# Altium integrated library Atmel Microcontroller 8-Bit tinyAVR.IntLib: 200 symbols (part 6 of 7)
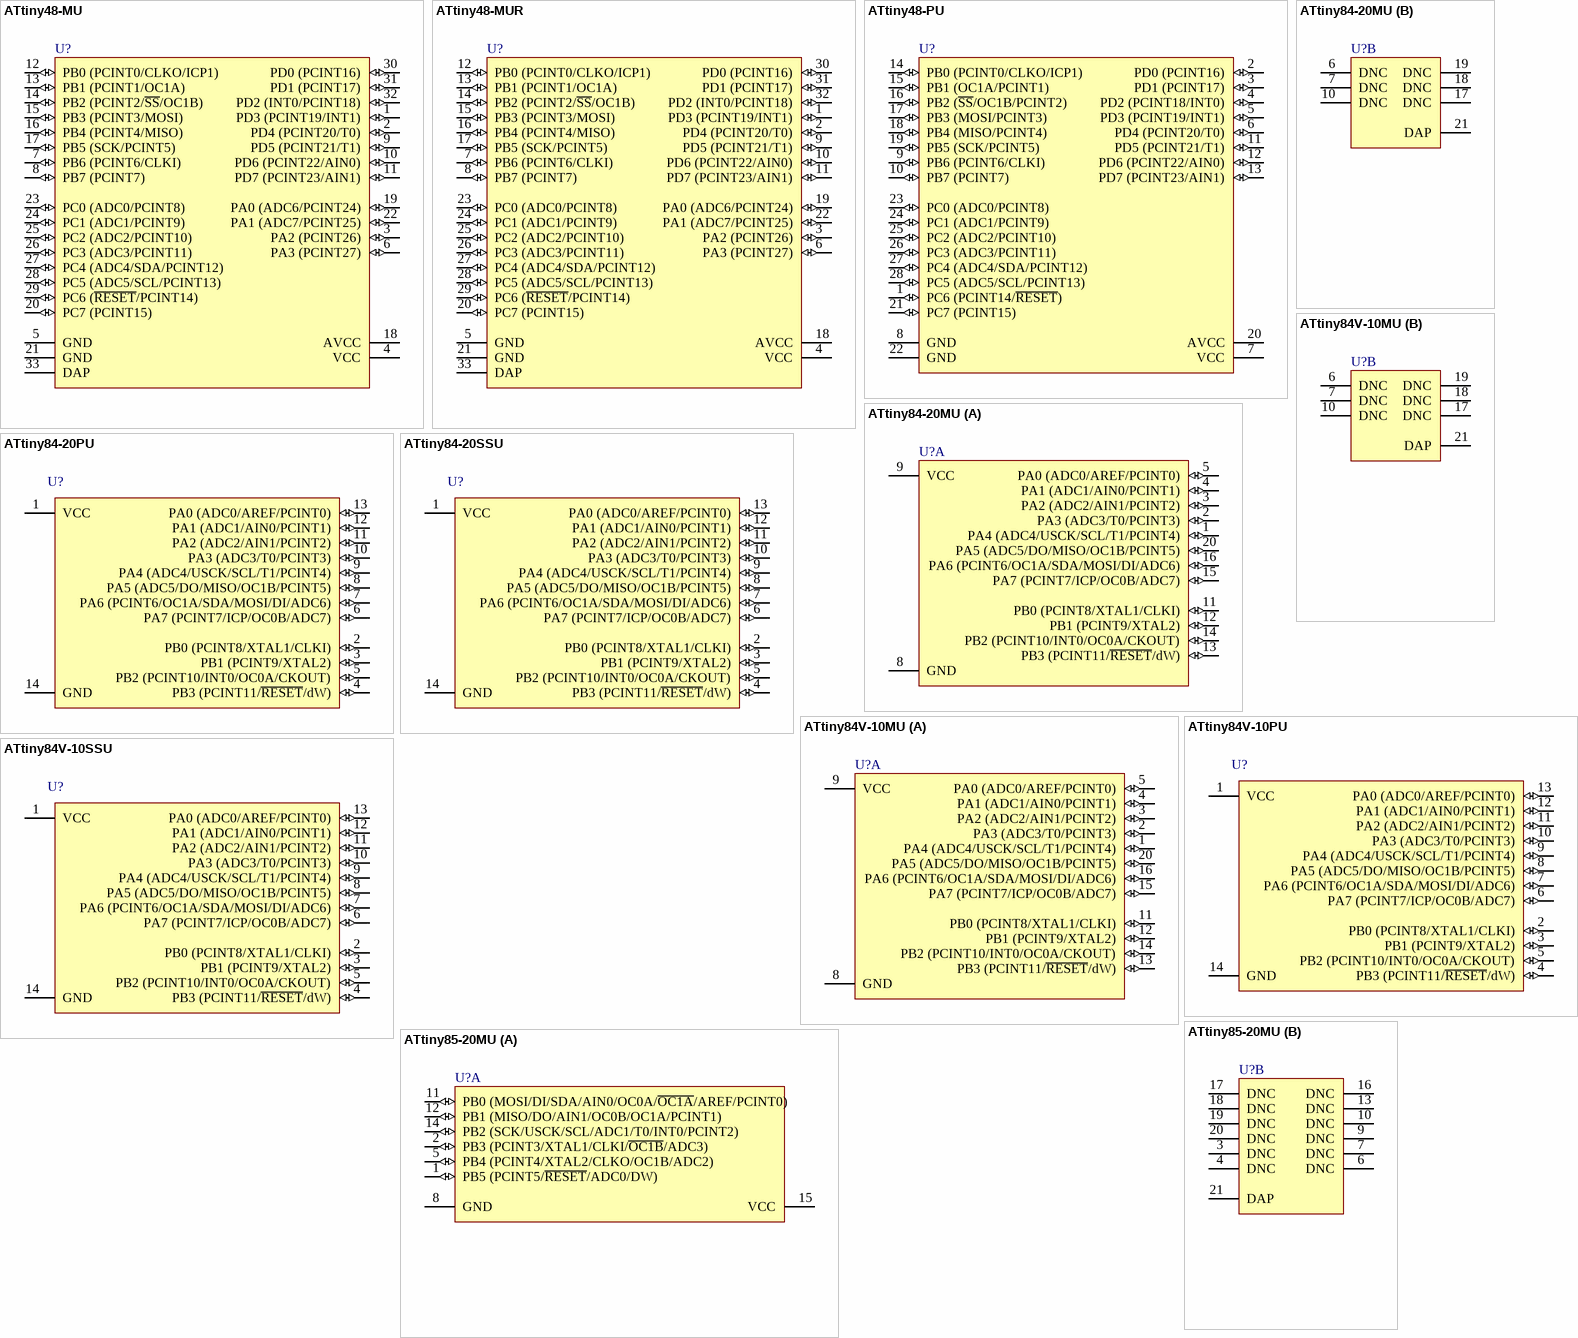
[diagram p18: symbols ATtiny48-MU to ATtiny85-20MU]

## ATtiny85-20MU
designator U?
Low Power tinyAVR® 8-Bit Microcontroller, 8K Flash Memory, 20MHz, Industrial Temperature, 20-pad MLF, Pb-Free; Published: 20-Nov-2009; DatasheetVersion: DOC2586I, May-2008; PackageVersion: revA, Oct-2004; PackageReference: 20M1; Publisher: Altium Limited; PackageDescription: 20-pad, 4 x 4 x 0.8 mm Body, Lead Pitch 0.50 mm, 2.6 mm Exposed Pad, Micro Lead Frame Package (MLF); Supplier 1: Digi-Key; Supplier Part Number 1: ATTINY85-20MU-ND; Supplier 2: Mouser; Supplier Part Number 2: 556-ATTINY85-20MU; Code_JEDEC: MO-220WGGD-5; ComponentLink1Description: Manufacturer Link; ComponentLink1URL: http://www.atmel.com/products/AVR/tinyavr.asp?; ComponentLink2Description: Datasheet; ComponentLink2URL: http://www.atmel.com/dyn/resources/prod_documents/doc2586.pdf; ComponentLink3Description: Atmel.com Home; ComponentLink3URL: http://www.atmel.com
footprint 20M1_N (QFN, 20-Leads, Body 4x4mm, Pitch 0.5mm, IPC Medium Density)
footprint 20M1_L (QFN, 20-Leads, Body 4x4mm, Pitch 0.5mm, IPC High Density)
footprint 20M1_M (QFN, 20-Leads, Body 4x4mm, Pitch 0.5mm, IPC Low Density)
part A pins: 1 PB5 (PCINT5/~{RESET}/ADC0/DW) (io), 2 PB3 (PCINT3/XTAL1/CLKI/~{OC1B}/ADC3) (io), 5 PB4 (PCINT4/XTAL2/CLKO/OC1B/ADC2) (io), 8 GND (power), 11 PB0 (MOSI/DI/SDA/AIN0/OC0A/~{OC1A}/AREF/PCINT0) (io), 12 PB1 (MISO/DO/AIN1/OC0B/OC1A/PCINT1) (io), 14 PB2 (SCK/USCK/SCL/ADC1/T0/INT0/PCINT2) (io), 15 VCC (power)
part B pins: 3 DNC, 4 DNC, 6 DNC, 7 DNC, 9 DNC, 10 DNC, 13 DNC, 16 DNC, 17 DNC, 18 DNC, 19 DNC, 20 DNC, 21 DAP

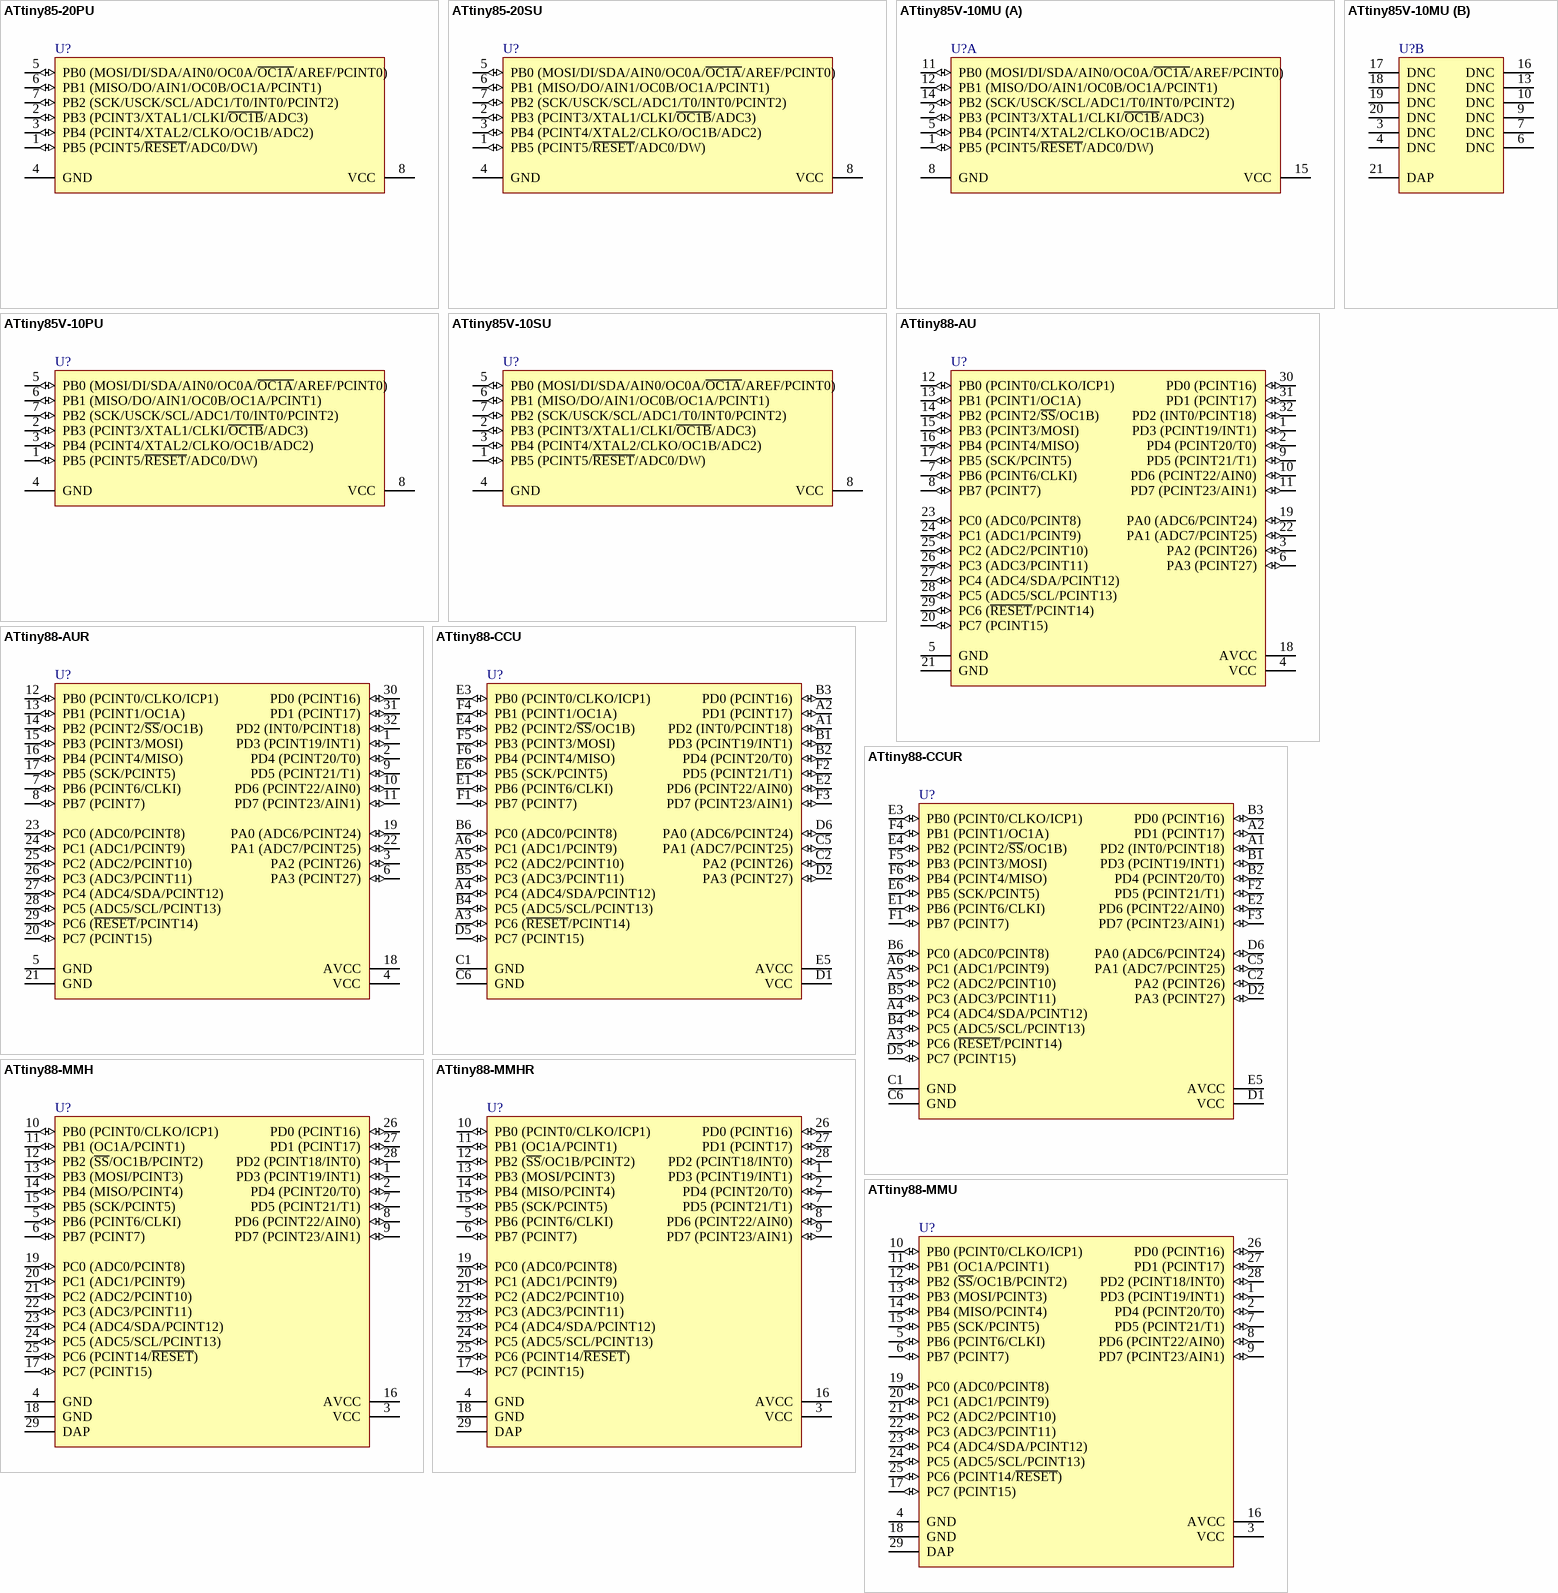
[diagram p10: symbols ATtiny85-20PU to ATtiny88-MMU]

## ATtiny85-20PU
designator U?
Low Power tinyAVR® 8-Bit Microcontroller, 8K Flash Memory, 20MHz, Industrial Temperature, 8-Lead PDIP, Pb-Free; Published: 20-Nov-2009; DatasheetVersion: DOC2586I, May-2008; PackageVersion: revB, Jan-2002; PackageReference: 8P3; Publisher: Altium Limited; PackageDescription: 8-Lead, 0.300" Wide Body, Plastic Dual In-Line Package (PDIP); Supplier 1: Digi-Key; Supplier Part Number 1: ATTINY85-20PU-ND; Supplier 2: Farnell; Supplier Part Number 2: 1455162; Supplier 3: Mouser; Supplier Part Number 3: 556-ATTINY85-20PU; Code_JEDEC: MS-001-BA; ComponentLink1Description: Manufacturer Link; ComponentLink1URL: http://www.atmel.com/products/AVR/tinyavr.asp?; ComponentLink2Description: Datasheet; ComponentLink2URL: http://www.atmel.com/dyn/resources/prod_documents/doc2586.pdf; ComponentLink3Description: Atmel.com Home; ComponentLink3URL: http://www.atmel.com
footprint 8P3 (DIP, 8-Leads, Row Spacing 7.62mm, Pitch 2.54mm, Body 9.59x6.61mm)
pins: 1 PB5 (PCINT5/~{RESET}/ADC0/DW) (io), 2 PB3 (PCINT3/XTAL1/CLKI/~{OC1B}/ADC3) (io), 3 PB4 (PCINT4/XTAL2/CLKO/OC1B/ADC2) (io), 4 GND (power), 5 PB0 (MOSI/DI/SDA/AIN0/OC0A/~{OC1A}/AREF/PCINT0) (io), 6 PB1 (MISO/DO/AIN1/OC0B/OC1A/PCINT1) (io), 7 PB2 (SCK/USCK/SCL/ADC1/T0/INT0/PCINT2) (io), 8 VCC (power)

## ATtiny85-20SU
designator U?
Low Power tinyAVR® 8-Bit Microcontroller, 8K Flash Memory, 20MHz, Industrial Temperature, 8-Lead SOIC, Pb-Free; Published: 20-Nov-2009; DatasheetVersion: DOC2586I, May-2008; PackageVersion: revF, Apr-2008; PackageReference: 8S2; Publisher: Altium Limited; PackageDescription: 8-Lead, 0.208" Body, Plastic Small Outline Package (EIAJ); Supplier 1: Digi-Key; Supplier Part Number 1: ATTINY85-20SU-ND; Supplier 2: Farnell; Supplier Part Number 2: 1455164; Supplier 3: Mouser; Supplier Part Number 3: 556-ATTINY85-20SU; ComponentLink1Description: Manufacturer Link; ComponentLink1URL: http://www.atmel.com/products/AVR/tinyavr.asp?; ComponentLink2Description: Datasheet; ComponentLink2URL: http://www.atmel.com/dyn/resources/prod_documents/doc2586.pdf; ComponentLink3Description: Atmel.com Home; ComponentLink3URL: http://www.atmel.com
footprint 8S2_N (SOP, 8-Leads, Body 5.3x5.3mm, Pitch 1.27mm, IPC Medium Density)
footprint 8S2_L (SOP, 8-Leads, Body 5.3x5.3mm, Pitch 1.27mm, IPC High Density)
footprint 8S2_M (SOP, 8-Leads, Body 5.3x5.3mm, Pitch 1.27mm, IPC Low Density)
pins: 1 PB5 (PCINT5/~{RESET}/ADC0/DW) (io), 2 PB3 (PCINT3/XTAL1/CLKI/~{OC1B}/ADC3) (io), 3 PB4 (PCINT4/XTAL2/CLKO/OC1B/ADC2) (io), 4 GND (power), 5 PB0 (MOSI/DI/SDA/AIN0/OC0A/~{OC1A}/AREF/PCINT0) (io), 6 PB1 (MISO/DO/AIN1/OC0B/OC1A/PCINT1) (io), 7 PB2 (SCK/USCK/SCL/ADC1/T0/INT0/PCINT2) (io), 8 VCC (power)

## ATtiny85V-10MU
designator U?
Low Power tinyAVR® 8-Bit Microcontroller, 8K Flash Memory, 10MHz, Industrial Temperature, 20-pad MLF, Pb-Free; Published: 20-Nov-2009; DatasheetVersion: DOC2586I, May-2008; PackageVersion: revA, Oct-2004; PackageReference: 20M1; Publisher: Altium Limited; PackageDescription: 20-pad, 4 x 4 x 0.8 mm Body, Lead Pitch 0.50 mm, 2.6 mm Exposed Pad, Micro Lead Frame Package (MLF); Supplier 1: Digi-Key; Supplier Part Number 1: ATTINY85V-10MU-ND; Supplier 2: Mouser; Supplier Part Number 2: 556-ATTINY85V10MU; Code_JEDEC: MO-220WGGD-5; ComponentLink1Description: Manufacturer Link; ComponentLink1URL: http://www.atmel.com/products/AVR/tinyavr.asp?; ComponentLink2Description: Datasheet; ComponentLink2URL: http://www.atmel.com/dyn/resources/prod_documents/doc2586.pdf; ComponentLink3Description: Atmel.com Home; ComponentLink3URL: http://www.atmel.com
footprint 20M1_N (QFN, 20-Leads, Body 4x4mm, Pitch 0.5mm, IPC Medium Density)
footprint 20M1_L (QFN, 20-Leads, Body 4x4mm, Pitch 0.5mm, IPC High Density)
footprint 20M1_M (QFN, 20-Leads, Body 4x4mm, Pitch 0.5mm, IPC Low Density)
part A pins: 1 PB5 (PCINT5/~{RESET}/ADC0/DW) (io), 2 PB3 (PCINT3/XTAL1/CLKI/~{OC1B}/ADC3) (io), 5 PB4 (PCINT4/XTAL2/CLKO/OC1B/ADC2) (io), 8 GND (power), 11 PB0 (MOSI/DI/SDA/AIN0/OC0A/~{OC1A}/AREF/PCINT0) (io), 12 PB1 (MISO/DO/AIN1/OC0B/OC1A/PCINT1) (io), 14 PB2 (SCK/USCK/SCL/ADC1/T0/INT0/PCINT2) (io), 15 VCC (power)
part B pins: 3 DNC, 4 DNC, 6 DNC, 7 DNC, 9 DNC, 10 DNC, 13 DNC, 16 DNC, 17 DNC, 18 DNC, 19 DNC, 20 DNC, 21 DAP

## ATtiny85V-10PU
designator U?
Low Power tinyAVR® 8-Bit Microcontroller, 8K Flash Memory, 10MHz, Industrial Temperature, 8-Lead PDIP, Pb-Free; Published: 20-Nov-2009; DatasheetVersion: DOC2586I, May-2008; PackageVersion: revB, Jan-2002; PackageReference: 8P3; Publisher: Altium Limited; PackageDescription: 8-Lead, 0.300" Wide Body, Plastic Dual In-Line Package (PDIP); Supplier 1: Digi-Key; Supplier Part Number 1: ATTINY85V-10PU-ND; Supplier 2: Farnell; Supplier Part Number 2: 1455165; Supplier 3: Mouser; Supplier Part Number 3: 556-ATTINY85V10PU; Code_JEDEC: MS-001-BA; ComponentLink1Description: Manufacturer Link; ComponentLink1URL: http://www.atmel.com/products/AVR/tinyavr.asp?; ComponentLink2Description: Datasheet; ComponentLink2URL: http://www.atmel.com/dyn/resources/prod_documents/doc2586.pdf; ComponentLink3Description: Atmel.com Home; ComponentLink3URL: http://www.atmel.com
footprint 8P3 (DIP, 8-Leads, Row Spacing 7.62mm, Pitch 2.54mm, Body 9.59x6.61mm)
pins: 1 PB5 (PCINT5/~{RESET}/ADC0/DW) (io), 2 PB3 (PCINT3/XTAL1/CLKI/~{OC1B}/ADC3) (io), 3 PB4 (PCINT4/XTAL2/CLKO/OC1B/ADC2) (io), 4 GND (power), 5 PB0 (MOSI/DI/SDA/AIN0/OC0A/~{OC1A}/AREF/PCINT0) (io), 6 PB1 (MISO/DO/AIN1/OC0B/OC1A/PCINT1) (io), 7 PB2 (SCK/USCK/SCL/ADC1/T0/INT0/PCINT2) (io), 8 VCC (power)

## ATtiny85V-10SU
designator U?
Low Power tinyAVR® 8-Bit Microcontroller, 8K Flash Memory, 10MHz, Industrial Temperature, 8-Lead SOIC, Pb-Free; Published: 20-Nov-2009; DatasheetVersion: DOC2586I, May-2008; PackageVersion: revF, Apr-2008; PackageReference: 8S2; Publisher: Altium Limited; PackageDescription: 8-Lead, 0.208" Body, Plastic Small Outline Package (EIAJ); Supplier 1: Digi-Key; Supplier Part Number 1: ATTINY85V-10SU-ND; Supplier 2: Farnell; Supplier Part Number 2: 1455166; Supplier 3: Mouser; Supplier Part Number 3: 556-ATTINY85V10SU; ComponentLink1Description: Manufacturer Link; ComponentLink1URL: http://www.atmel.com/products/AVR/tinyavr.asp?; ComponentLink2Description: Datasheet; ComponentLink2URL: http://www.atmel.com/dyn/resources/prod_documents/doc2586.pdf; ComponentLink3Description: Atmel.com Home; ComponentLink3URL: http://www.atmel.com
footprint 8S2_N (SOP, 8-Leads, Body 5.3x5.3mm, Pitch 1.27mm, IPC Medium Density)
footprint 8S2_L (SOP, 8-Leads, Body 5.3x5.3mm, Pitch 1.27mm, IPC High Density)
footprint 8S2_M (SOP, 8-Leads, Body 5.3x5.3mm, Pitch 1.27mm, IPC Low Density)
pins: 1 PB5 (PCINT5/~{RESET}/ADC0/DW) (io), 2 PB3 (PCINT3/XTAL1/CLKI/~{OC1B}/ADC3) (io), 3 PB4 (PCINT4/XTAL2/CLKO/OC1B/ADC2) (io), 4 GND (power), 5 PB0 (MOSI/DI/SDA/AIN0/OC0A/~{OC1A}/AREF/PCINT0) (io), 6 PB1 (MISO/DO/AIN1/OC0B/OC1A/PCINT1) (io), 7 PB2 (SCK/USCK/SCL/ADC1/T0/INT0/PCINT2) (io), 8 VCC (power)

## ATtiny88-AU
designator U?
8-bit AVR Microcontroller, 1.8-5.5V, 8KB Flash, 64 Bytes EEPROM, 512 Bytes SRAM, 32-pin TQFP, Industrial Grade (-40°C to 85°C), Pb-Free; Published: 1-Apr-2010; DatasheetVersion: revC, Mar-2009; PackageVersion: revB, Oct-2001; PackageReference: 32A; Publisher: Altium Limited; PackageDescription: 32-Lead, 7x7x1.0 mm Body, 0.8mm Lead Pitch, Thin Profile Plastic Quad Flat Package (TQFP); Supplier 1: Digi-Key; Supplier Part Number 1: ATTINY88-AU-ND; Supplier 2: Farnell; Supplier Part Number 2: 1704570; Supplier 3: Mouser; Supplier Part Number 3: 556-ATTINY88-AU; Code_JEDEC: MS-026-ABA; ComponentLink1Description: Manufacturer Link; ComponentLink1URL: http://www.atmel.com/products/avr/default.asp?; ComponentLink2Description: ATtiny48/88 Datasheet; ComponentLink2URL: http://www.atmel.com/dyn/resources/prod_documents/doc8008.pdf; ComponentLink3Description: ATtiny48/88 Summary; ComponentLink3URL: http://www.atmel.com/dyn/resources/prod_documents/8008S.pdf; ComponentLink4Description: Atmel.com Home; ComponentLink4URL: http://www.atmel.com
footprint 32A_N (Thin QFP, 32-Leads, Body 7x7mm, Pitch 0.8mm, IPC Medium Density)
footprint 32A_L (Thin QFP, 32-Leads, Body 7x7mm, Pitch 0.8mm, IPC High Density)
footprint 32A_M (Thin QFP, 32-Leads, Body 7x7mm, Pitch 0.8mm, IPC Low Density)
pins: 1 PD3 (PCINT19/INT1) (io), 2 PD4 (PCINT20/T0) (io), 3 PA2 (PCINT26) (io), 4 VCC (power), 5 GND (power), 6 PA3 (PCINT27) (io), 7 PB6 (PCINT6/CLKI) (io), 8 PB7 (PCINT7) (io), 9 PD5 (PCINT21/T1) (io), 10 PD6 (PCINT22/AIN0) (io), 11 PD7 (PCINT23/AIN1) (io), 12 PB0 (PCINT0/CLKO/ICP1) (io), 13 PB1 (PCINT1/OC1A) (io), 14 PB2 (PCINT2/~{SS}/OC1B) (io), 15 PB3 (PCINT3/MOSI) (io), 16 PB4 (PCINT4/MISO) (io), 17 PB5 (SCK/PCINT5) (io), 18 AVCC (power), 19 PA0 (ADC6/PCINT24) (io), 20 PC7 (PCINT15) (io), 21 GND (power), 22 PA1 (ADC7/PCINT25) (io), 23 PC0 (ADC0/PCINT8) (io), 24 PC1 (ADC1/PCINT9) (io), 25 PC2 (ADC2/PCINT10) (io), 26 PC3 (ADC3/PCINT11) (io), 27 PC4 (ADC4/SDA/PCINT12) (io), 28 PC5 (ADC5/SCL/PCINT13) (io), 29 PC6 (~{RESET}/PCINT14) (io), 30 PD0 (PCINT16) (io), 31 PD1 (PCINT17) (io), 32 PD2 (INT0/PCINT18) (io)

## ATtiny88-AUR
designator U?
8-bit AVR Microcontroller, 1.8-5.5V, 8KB Flash, 64 Bytes EEPROM, 512 Bytes SRAM, 32-pin TQFP, Industrial Grade (-40°C to 85°C), Pb-Free, Reel; Published: 1-Apr-2010; DatasheetVersion: revC, Mar-2009; PackageVersion: revB, Oct-2001; PackageReference: 32A; Publisher: Altium Limited; PackageDescription: 32-Lead, 7x7x1.0 mm Body, 0.8mm Lead Pitch, Thin Profile Plastic Quad Flat Package (TQFP); Supplier 1: Digi-Key; Supplier Part Number 1: ATTINY88-AUR-ND; Supplier 2: Mouser; Supplier Part Number 2: 556-ATTINY88-AUR; Code_JEDEC: MS-026-ABA; ComponentLink1Description: Manufacturer Link; ComponentLink1URL: http://www.atmel.com/products/avr/default.asp?; ComponentLink2Description: ATtiny48/88 Datasheet; ComponentLink2URL: http://www.atmel.com/dyn/resources/prod_documents/doc8008.pdf; ComponentLink3Description: ATtiny48/88 Summary; ComponentLink3URL: http://www.atmel.com/dyn/resources/prod_documents/8008S.pdf; ComponentLink4Description: Atmel.com Home; ComponentLink4URL: http://www.atmel.com
footprint 32A_N (Thin QFP, 32-Leads, Body 7x7mm, Pitch 0.8mm, IPC Medium Density)
footprint 32A_L (Thin QFP, 32-Leads, Body 7x7mm, Pitch 0.8mm, IPC High Density)
footprint 32A_M (Thin QFP, 32-Leads, Body 7x7mm, Pitch 0.8mm, IPC Low Density)
pins: 1 PD3 (PCINT19/INT1) (io), 2 PD4 (PCINT20/T0) (io), 3 PA2 (PCINT26) (io), 4 VCC (power), 5 GND (power), 6 PA3 (PCINT27) (io), 7 PB6 (PCINT6/CLKI) (io), 8 PB7 (PCINT7) (io), 9 PD5 (PCINT21/T1) (io), 10 PD6 (PCINT22/AIN0) (io), 11 PD7 (PCINT23/AIN1) (io), 12 PB0 (PCINT0/CLKO/ICP1) (io), 13 PB1 (PCINT1/OC1A) (io), 14 PB2 (PCINT2/~{SS}/OC1B) (io), 15 PB3 (PCINT3/MOSI) (io), 16 PB4 (PCINT4/MISO) (io), 17 PB5 (SCK/PCINT5) (io), 18 AVCC (power), 19 PA0 (ADC6/PCINT24) (io), 20 PC7 (PCINT15) (io), 21 GND (power), 22 PA1 (ADC7/PCINT25) (io), 23 PC0 (ADC0/PCINT8) (io), 24 PC1 (ADC1/PCINT9) (io), 25 PC2 (ADC2/PCINT10) (io), 26 PC3 (ADC3/PCINT11) (io), 27 PC4 (ADC4/SDA/PCINT12) (io), 28 PC5 (ADC5/SCL/PCINT13) (io), 29 PC6 (~{RESET}/PCINT14) (io), 30 PD0 (PCINT16) (io), 31 PD1 (PCINT17) (io), 32 PD2 (INT0/PCINT18) (io)

## ATtiny88-CCU
designator U?
8-bit AVR Microcontroller, 1.8-5.5V, 8KB Flash, 64 Bytes EEPROM, 512 Bytes SRAM, 32-pin  UFBGA, Industrial Grade (-40°C to 85°C), Pb-Free; Published: 1-Apr-2010; DatasheetVersion: revC, Mar-2009; PackageVersion: revA, Jul-2009; PackageReference: 32CC1; Publisher: Altium Limited; PackageDescription: 32-Ball Ultra Thin, Fine-Pitch BGA (6x6 Array) 4x4x0.6mm Body, 0.5mm Pitch (UFBGA); ComponentLink1Description: Manufacturer Link; ComponentLink1URL: http://www.atmel.com/products/avr/default.asp?; ComponentLink2Description: ATtiny48/88 Datasheet; ComponentLink2URL: http://www.atmel.com/dyn/resources/prod_documents/doc8008.pdf; ComponentLink3Description: ATtiny48/88 Summary; ComponentLink3URL: http://www.atmel.com/dyn/resources/prod_documents/8008S.pdf; ComponentLink4Description: Atmel.com Home; ComponentLink4URL: http://www.atmel.com
footprint 32CC1 (BGA, 34-Leads, Body 4x4mm, Pitch 0.5mm)
pins: A1 PD2 (INT0/PCINT18) (io), A2 PD1 (PCINT17) (io), A3 PC6 (~{RESET}/PCINT14) (io), A4 PC4 (ADC4/SDA/PCINT12) (io), A5 PC2 (ADC2/PCINT10) (io), A6 PC1 (ADC1/PCINT9) (io), B1 PD3 (PCINT19/INT1) (io), B2 PD4 (PCINT20/T0) (io), B3 PD0 (PCINT16) (io), B4 PC5 (ADC5/SCL/PCINT13) (io), B5 PC3 (ADC3/PCINT11) (io), B6 PC0 (ADC0/PCINT8) (io), C1 GND (power), C2 PA2 (PCINT26) (io), C5 PA1 (ADC7/PCINT25) (io), C6 GND (power), D1 VCC (power), D2 PA3 (PCINT27) (io), D5 PC7 (PCINT15) (io), D6 PA0 (ADC6/PCINT24) (io), E1 PB6 (PCINT6/CLKI) (io), E2 PD6 (PCINT22/AIN0) (io), E3 PB0 (PCINT0/CLKO/ICP1) (io), E4 PB2 (PCINT2/~{SS}/OC1B) (io), E5 AVCC (power), E6 PB5 (SCK/PCINT5) (io), F1 PB7 (PCINT7) (io), F2 PD5 (PCINT21/T1) (io), F3 PD7 (PCINT23/AIN1) (io), F4 PB1 (PCINT1/OC1A) (io), F5 PB3 (PCINT3/MOSI) (io), F6 PB4 (PCINT4/MISO) (io)

## ATtiny88-CCUR
designator U?
8-bit AVR Microcontroller, 1.8-5.5V, 8KB Flash, 64 Bytes EEPROM, 512 Bytes SRAM, 32-pin  UFBGA, Industrial Grade (-40°C to 85°C), Pb-Free, Reel; Published: 1-Apr-2010; DatasheetVersion: revC, Mar-2009; PackageVersion: revA, Jul-2009; PackageReference: 32CC1; Publisher: Altium Limited; PackageDescription: 32-Ball Ultra Thin, Fine-Pitch BGA (6x6 Array) 4x4x0.6mm Body, 0.5mm Pitch (UFBGA); ComponentLink1Description: Manufacturer Link; ComponentLink1URL: http://www.atmel.com/products/avr/default.asp?; ComponentLink2Description: ATtiny48/88 Datasheet; ComponentLink2URL: http://www.atmel.com/dyn/resources/prod_documents/doc8008.pdf; ComponentLink3Description: ATtiny48/88 Summary; ComponentLink3URL: http://www.atmel.com/dyn/resources/prod_documents/8008S.pdf; ComponentLink4Description: Atmel.com Home; ComponentLink4URL: http://www.atmel.com
footprint 32CC1 (BGA, 34-Leads, Body 4x4mm, Pitch 0.5mm)
pins: A1 PD2 (INT0/PCINT18) (io), A2 PD1 (PCINT17) (io), A3 PC6 (~{RESET}/PCINT14) (io), A4 PC4 (ADC4/SDA/PCINT12) (io), A5 PC2 (ADC2/PCINT10) (io), A6 PC1 (ADC1/PCINT9) (io), B1 PD3 (PCINT19/INT1) (io), B2 PD4 (PCINT20/T0) (io), B3 PD0 (PCINT16) (io), B4 PC5 (ADC5/SCL/PCINT13) (io), B5 PC3 (ADC3/PCINT11) (io), B6 PC0 (ADC0/PCINT8) (io), C1 GND (power), C2 PA2 (PCINT26) (io), C5 PA1 (ADC7/PCINT25) (io), C6 GND (power), D1 VCC (power), D2 PA3 (PCINT27) (io), D5 PC7 (PCINT15) (io), D6 PA0 (ADC6/PCINT24) (io), E1 PB6 (PCINT6/CLKI) (io), E2 PD6 (PCINT22/AIN0) (io), E3 PB0 (PCINT0/CLKO/ICP1) (io), E4 PB2 (PCINT2/~{SS}/OC1B) (io), E5 AVCC (power), E6 PB5 (SCK/PCINT5) (io), F1 PB7 (PCINT7) (io), F2 PD5 (PCINT21/T1) (io), F3 PD7 (PCINT23/AIN1) (io), F4 PB1 (PCINT1/OC1A) (io), F5 PB3 (PCINT3/MOSI) (io), F6 PB4 (PCINT4/MISO) (io)

## ATtiny88-MMH
designator U?
8-bit AVR Microcontroller, 1.8-5.5V, 8KB Flash, 64 Bytes EEPROM, 512 Bytes SRAM, 28-pin MLF, Industrial Grade (-40°C to 85°C), Pb-Free; Published: 1-Apr-2010; DatasheetVersion: revC, Mar-2009; PackageVersion: revB, Nov-2008; PackageReference: 28M1; Publisher: Altium Limited; PackageDescription: 28-pad, 4x4x1.0mm Body, Pitch 0.45mm, 2.4x2.4mm Exposed Pad, Plastic Very Thin QFN Package (VQFN); Supplier 1: Digi-Key; Supplier Part Number 1: ATTINY88-MMH-ND; Supplier 2: Mouser; Supplier Part Number 2: 556-ATTINY88-MMH; ComponentLink1Description: Manufacturer Link; ComponentLink1URL: http://www.atmel.com/products/avr/default.asp?; ComponentLink2Description: ATtiny48/88 Datasheet; ComponentLink2URL: http://www.atmel.com/dyn/resources/prod_documents/doc8008.pdf; ComponentLink3Description: ATtiny48/88 Summary; ComponentLink3URL: http://www.atmel.com/dyn/resources/prod_documents/8008S.pdf; ComponentLink4Description: Atmel.com Home; ComponentLink4URL: http://www.atmel.com
footprint 28M1_N (QFN, 28-Leads, Body 4x4mm, Pitch 0.45mm, IPC Medium Density)
footprint 28M1_L (QFN, 28-Leads, Body 4x4mm, Pitch 0.45mm, IPC High Density)
footprint 28M1_M (QFN, 28-Leads, Body 4x4mm, Pitch 0.45mm, IPC Low Density)
pins: 1 PD3 (PCINT19/INT1) (io), 2 PD4 (PCINT20/T0) (io), 3 VCC (power), 4 GND (power), 5 PB6 (PCINT6/CLKI) (io), 6 PB7 (PCINT7) (io), 7 PD5 (PCINT21/T1) (io), 8 PD6 (PCINT22/AIN0) (io), 9 PD7 (PCINT23/AIN1) (io), 10 PB0 (PCINT0/CLKO/ICP1) (io), 11 PB1 (OC1A/PCINT1) (io), 12 PB2 (~{SS}/OC1B/PCINT2) (io), 13 PB3 (MOSI/PCINT3) (io), 14 PB4 (MISO/PCINT4) (io), 15 PB5 (SCK/PCINT5) (io), 16 AVCC (power), 17 PC7 (PCINT15) (io), 18 GND (power), 19 PC0 (ADC0/PCINT8) (io), 20 PC1 (ADC1/PCINT9) (io), 21 PC2 (ADC2/PCINT10) (io), 22 PC3 (ADC3/PCINT11) (io), 23 PC4 (ADC4/SDA/PCINT12) (io), 24 PC5 (ADC5/SCL/PCINT13) (io), 25 PC6 (PCINT14/~{RESET}) (io), 26 PD0 (PCINT16) (io), 27 PD1 (PCINT17) (io), 28 PD2 (PCINT18/INT0) (io), 29 DAP

## ATtiny88-MMHR
designator U?
8-bit AVR Microcontroller, 1.8-5.5V, 8KB Flash, 64 Bytes EEPROM, 512 Bytes SRAM, 28-pin MLF, Industrial Grade (-40°C to 85°C), Pb-Free, Reel; Published: 1-Apr-2010; DatasheetVersion: revC, Mar-2009; PackageVersion: revB, Nov-2008; PackageReference: 28M1; Publisher: Altium Limited; PackageDescription: 28-pad, 4x4x1.0mm Body, Pitch 0.45mm, 2.4x2.4mm Exposed Pad, Plastic Very Thin QFN Package (VQFN); Supplier 1: Digi-Key; Supplier Part Number 1: ATTINY88-MMHR-ND; Supplier 2: Mouser; Supplier Part Number 2: 556-ATTINY88-MMHR; ComponentLink1Description: Manufacturer Link; ComponentLink1URL: http://www.atmel.com/products/avr/default.asp?; ComponentLink2Description: ATtiny48/88 Datasheet; ComponentLink2URL: http://www.atmel.com/dyn/resources/prod_documents/doc8008.pdf; ComponentLink3Description: ATtiny48/88 Summary; ComponentLink3URL: http://www.atmel.com/dyn/resources/prod_documents/8008S.pdf; ComponentLink4Description: Atmel.com Home; ComponentLink4URL: http://www.atmel.com
footprint 28M1_N (QFN, 28-Leads, Body 4x4mm, Pitch 0.45mm, IPC Medium Density)
footprint 28M1_L (QFN, 28-Leads, Body 4x4mm, Pitch 0.45mm, IPC High Density)
footprint 28M1_M (QFN, 28-Leads, Body 4x4mm, Pitch 0.45mm, IPC Low Density)
pins: 1 PD3 (PCINT19/INT1) (io), 2 PD4 (PCINT20/T0) (io), 3 VCC (power), 4 GND (power), 5 PB6 (PCINT6/CLKI) (io), 6 PB7 (PCINT7) (io), 7 PD5 (PCINT21/T1) (io), 8 PD6 (PCINT22/AIN0) (io), 9 PD7 (PCINT23/AIN1) (io), 10 PB0 (PCINT0/CLKO/ICP1) (io), 11 PB1 (OC1A/PCINT1) (io), 12 PB2 (~{SS}/OC1B/PCINT2) (io), 13 PB3 (MOSI/PCINT3) (io), 14 PB4 (MISO/PCINT4) (io), 15 PB5 (SCK/PCINT5) (io), 16 AVCC (power), 17 PC7 (PCINT15) (io), 18 GND (power), 19 PC0 (ADC0/PCINT8) (io), 20 PC1 (ADC1/PCINT9) (io), 21 PC2 (ADC2/PCINT10) (io), 22 PC3 (ADC3/PCINT11) (io), 23 PC4 (ADC4/SDA/PCINT12) (io), 24 PC5 (ADC5/SCL/PCINT13) (io), 25 PC6 (PCINT14/~{RESET}) (io), 26 PD0 (PCINT16) (io), 27 PD1 (PCINT17) (io), 28 PD2 (PCINT18/INT0) (io), 29 DAP

## ATtiny88-MMU
designator U?
8-bit AVR Microcontroller, 1.8-5.5V, 8KB Flash, 64 Bytes EEPROM, 512 Bytes SRAM, 28-pin MLF, Industrial Grade (-40°C to 85°C), Pb-Free; Published: 1-Apr-2010; DatasheetVersion: revC, Mar-2009; PackageVersion: revB, Nov-2008; PackageReference: 28M1; Publisher: Altium Limited; PackageDescription: 28-pad, 4x4x1.0mm Body, Pitch 0.45mm, 2.4x2.4mm Exposed Pad, Plastic Very Thin QFN Package (VQFN); Supplier 1: Digi-Key; Supplier Part Number 1: ATTINY88-MMU-ND; Supplier 2: Mouser; Supplier Part Number 2: 556-ATTINY88-MMU; ComponentLink1Description: Manufacturer Link; ComponentLink1URL: http://www.atmel.com/products/avr/default.asp?; ComponentLink2Description: ATtiny48/88 Datasheet; ComponentLink2URL: http://www.atmel.com/dyn/resources/prod_documents/doc8008.pdf; ComponentLink3Description: ATtiny48/88 Summary; ComponentLink3URL: http://www.atmel.com/dyn/resources/prod_documents/8008S.pdf; ComponentLink4Description: Atmel.com Home; ComponentLink4URL: http://www.atmel.com
footprint 28M1_N (QFN, 28-Leads, Body 4x4mm, Pitch 0.45mm, IPC Medium Density)
footprint 28M1_L (QFN, 28-Leads, Body 4x4mm, Pitch 0.45mm, IPC High Density)
footprint 28M1_M (QFN, 28-Leads, Body 4x4mm, Pitch 0.45mm, IPC Low Density)
pins: 1 PD3 (PCINT19/INT1) (io), 2 PD4 (PCINT20/T0) (io), 3 VCC (power), 4 GND (power), 5 PB6 (PCINT6/CLKI) (io), 6 PB7 (PCINT7) (io), 7 PD5 (PCINT21/T1) (io), 8 PD6 (PCINT22/AIN0) (io), 9 PD7 (PCINT23/AIN1) (io), 10 PB0 (PCINT0/CLKO/ICP1) (io), 11 PB1 (OC1A/PCINT1) (io), 12 PB2 (~{SS}/OC1B/PCINT2) (io), 13 PB3 (MOSI/PCINT3) (io), 14 PB4 (MISO/PCINT4) (io), 15 PB5 (SCK/PCINT5) (io), 16 AVCC (power), 17 PC7 (PCINT15) (io), 18 GND (power), 19 PC0 (ADC0/PCINT8) (io), 20 PC1 (ADC1/PCINT9) (io), 21 PC2 (ADC2/PCINT10) (io), 22 PC3 (ADC3/PCINT11) (io), 23 PC4 (ADC4/SDA/PCINT12) (io), 24 PC5 (ADC5/SCL/PCINT13) (io), 25 PC6 (PCINT14/~{RESET}) (io), 26 PD0 (PCINT16) (io), 27 PD1 (PCINT17) (io), 28 PD2 (PCINT18/INT0) (io), 29 DAP

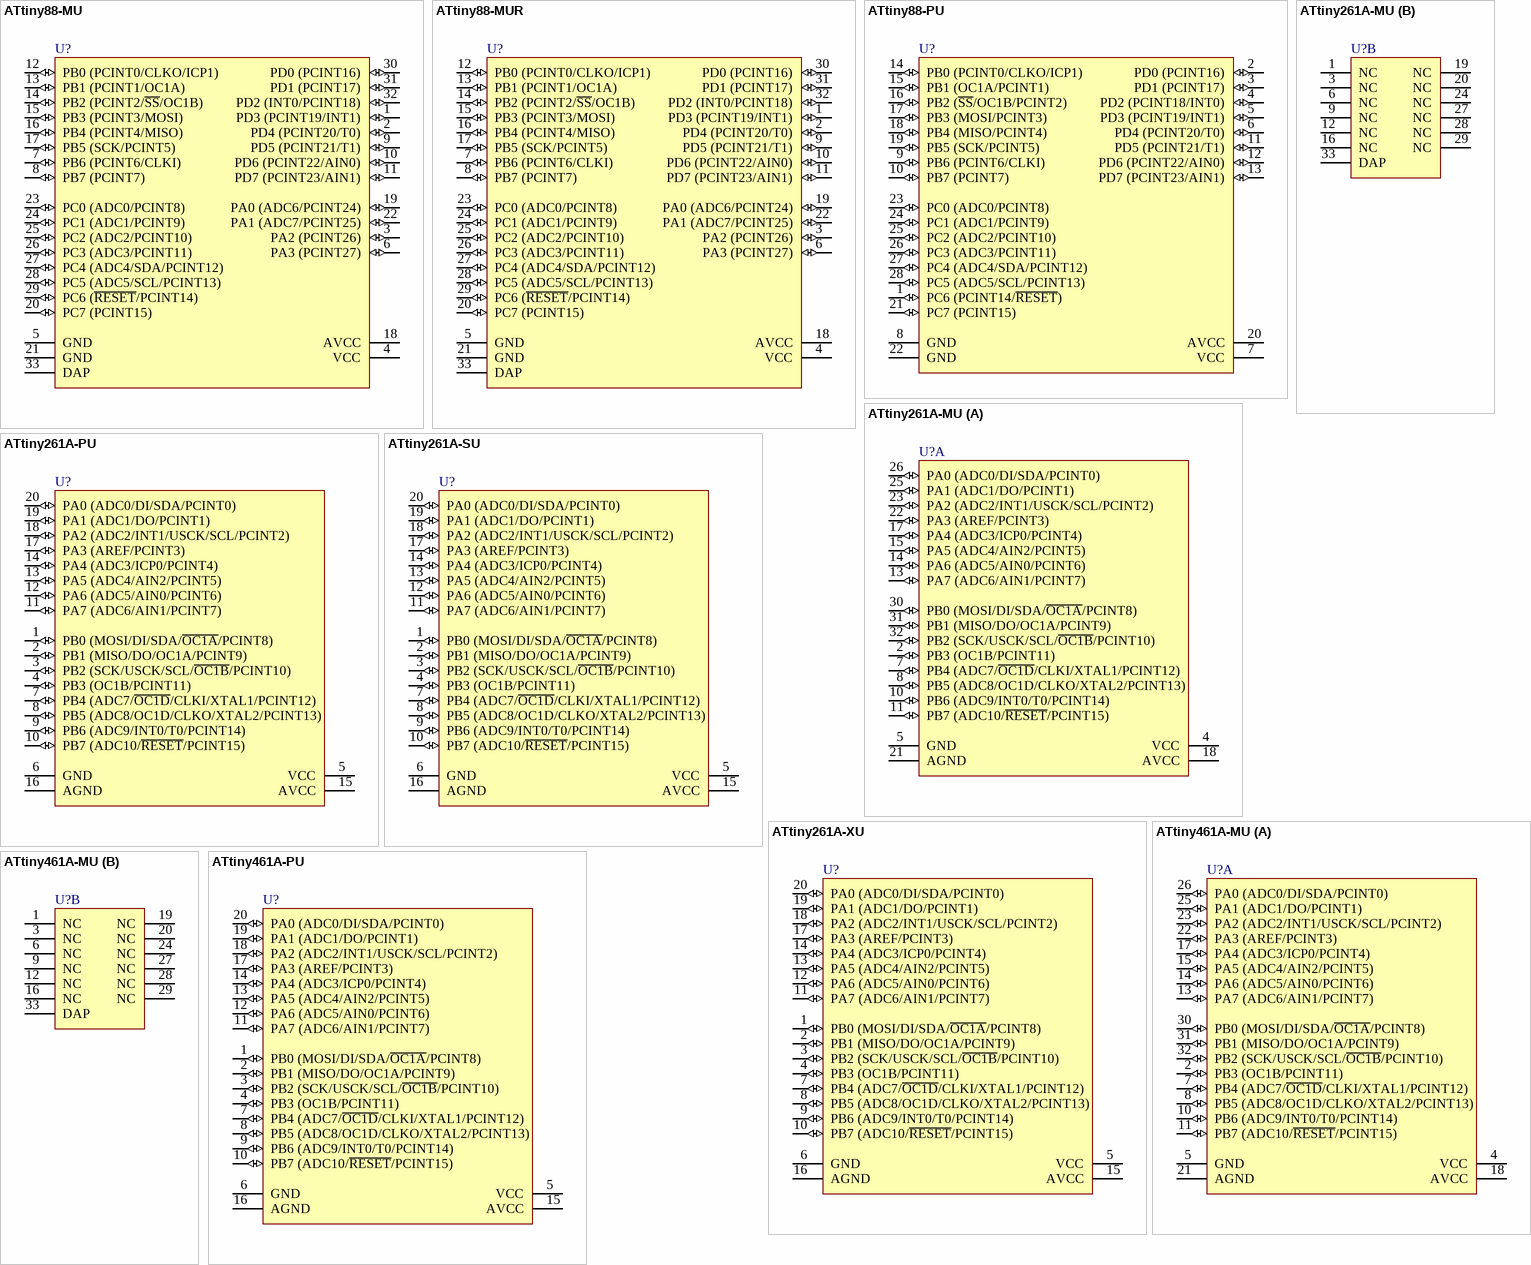
[diagram p11: symbols ATtiny88-MU to ATtiny461A-PU]

## ATtiny88-MU
designator U?
8-bit AVR Microcontroller, 1.8-5.5V, 8KB Flash, 64 Bytes EEPROM, 512 Bytes SRAM, 32-pin MLF, Industrial Grade (-40°C to 85°C), Pb-Free; Published: 1-Apr-2010; DatasheetVersion: revC, Mar-2009; PackageVersion: revE, May-2006; PackageReference: 32M1-A; Publisher: Altium Limited; PackageDescription: 32-Pin Micro Lead Frame Package (MLF),  5 x 5 x 1.0 mm Body, Pitch 0.50 mm, 3.10mm Exposed Pad; Supplier 1: Digi-Key; Supplier Part Number 1: ATTINY88-MU-ND; Supplier 2: Farnell; Supplier Part Number 2: 1748549; Supplier 3: Mouser; Supplier Part Number 3: 556-ATTINY88-MU; Code_JEDEC: MO-220-VHHD-2; ComponentLink1Description: Manufacturer Link; ComponentLink1URL: http://www.atmel.com/products/avr/default.asp?; ComponentLink2Description: ATtiny48/88 Datasheet; ComponentLink2URL: http://www.atmel.com/dyn/resources/prod_documents/doc8008.pdf; ComponentLink3Description: ATtiny48/88 Summary; ComponentLink3URL: http://www.atmel.com/dyn/resources/prod_documents/8008S.pdf; ComponentLink4Description: Atmel.com Home; ComponentLink4URL: http://www.atmel.com
footprint 32M1-A_N (QFN, 32-Leads, Body 5x5mm, Pitch 0.5mm, IPC Medium Density)
footprint 32M1-A_L (QFN, 32-Leads, Body 5x5mm, Pitch 0.5mm, IPC High Density)
footprint 32M1-A_M (QFN, 32-Leads, Body 5x5mm, Pitch 0.5mm, IPC Low Density)
pins: 1 PD3 (PCINT19/INT1) (io), 2 PD4 (PCINT20/T0) (io), 3 PA2 (PCINT26) (io), 4 VCC (power), 5 GND (power), 6 PA3 (PCINT27) (io), 7 PB6 (PCINT6/CLKI) (io), 8 PB7 (PCINT7) (io), 9 PD5 (PCINT21/T1) (io), 10 PD6 (PCINT22/AIN0) (io), 11 PD7 (PCINT23/AIN1) (io), 12 PB0 (PCINT0/CLKO/ICP1) (io), 13 PB1 (PCINT1/OC1A) (io), 14 PB2 (PCINT2/~{SS}/OC1B) (io), 15 PB3 (PCINT3/MOSI) (io), 16 PB4 (PCINT4/MISO) (io), 17 PB5 (SCK/PCINT5) (io), 18 AVCC (power), 19 PA0 (ADC6/PCINT24) (io), 20 PC7 (PCINT15) (io), 21 GND (power), 22 PA1 (ADC7/PCINT25) (io), 23 PC0 (ADC0/PCINT8) (io), 24 PC1 (ADC1/PCINT9) (io), 25 PC2 (ADC2/PCINT10) (io), 26 PC3 (ADC3/PCINT11) (io), 27 PC4 (ADC4/SDA/PCINT12) (io), 28 PC5 (ADC5/SCL/PCINT13) (io), 29 PC6 (~{RESET}/PCINT14) (io), 30 PD0 (PCINT16) (io), 31 PD1 (PCINT17) (io), 32 PD2 (INT0/PCINT18) (io), 33 DAP

## ATtiny88-MUR
designator U?
8-bit AVR Microcontroller, 1.8-5.5V, 8KB Flash, 64 Bytes EEPROM, 512 Bytes SRAM, 32-pin MLF, Industrial Grade (-40°C to 85°C), Pb-Free, Reel; Published: 1-Apr-2010; DatasheetVersion: revC, Mar-2009; PackageVersion: revE, May-2006; PackageReference: 32M1-A; Publisher: Altium Limited; PackageDescription: 32-Pin Micro Lead Frame Package (MLF),  5 x 5 x 1.0 mm Body, Pitch 0.50 mm, 3.10mm Exposed Pad; Supplier 1: Digi-Key; Supplier Part Number 1: ATTINY88-MUR-ND; Supplier 2: Mouser; Supplier Part Number 2: 556-ATTINY88-MUR; Code_JEDEC: MO-220-VHHD-2; ComponentLink1Description: Manufacturer Link; ComponentLink1URL: http://www.atmel.com/products/avr/default.asp?; ComponentLink2Description: ATtiny48/88 Datasheet; ComponentLink2URL: http://www.atmel.com/dyn/resources/prod_documents/doc8008.pdf; ComponentLink3Description: ATtiny48/88 Summary; ComponentLink3URL: http://www.atmel.com/dyn/resources/prod_documents/8008S.pdf; ComponentLink4Description: Atmel.com Home; ComponentLink4URL: http://www.atmel.com
footprint 32M1-A_N (QFN, 32-Leads, Body 5x5mm, Pitch 0.5mm, IPC Medium Density)
footprint 32M1-A_L (QFN, 32-Leads, Body 5x5mm, Pitch 0.5mm, IPC High Density)
footprint 32M1-A_M (QFN, 32-Leads, Body 5x5mm, Pitch 0.5mm, IPC Low Density)
pins: 1 PD3 (PCINT19/INT1) (io), 2 PD4 (PCINT20/T0) (io), 3 PA2 (PCINT26) (io), 4 VCC (power), 5 GND (power), 6 PA3 (PCINT27) (io), 7 PB6 (PCINT6/CLKI) (io), 8 PB7 (PCINT7) (io), 9 PD5 (PCINT21/T1) (io), 10 PD6 (PCINT22/AIN0) (io), 11 PD7 (PCINT23/AIN1) (io), 12 PB0 (PCINT0/CLKO/ICP1) (io), 13 PB1 (PCINT1/OC1A) (io), 14 PB2 (PCINT2/~{SS}/OC1B) (io), 15 PB3 (PCINT3/MOSI) (io), 16 PB4 (PCINT4/MISO) (io), 17 PB5 (SCK/PCINT5) (io), 18 AVCC (power), 19 PA0 (ADC6/PCINT24) (io), 20 PC7 (PCINT15) (io), 21 GND (power), 22 PA1 (ADC7/PCINT25) (io), 23 PC0 (ADC0/PCINT8) (io), 24 PC1 (ADC1/PCINT9) (io), 25 PC2 (ADC2/PCINT10) (io), 26 PC3 (ADC3/PCINT11) (io), 27 PC4 (ADC4/SDA/PCINT12) (io), 28 PC5 (ADC5/SCL/PCINT13) (io), 29 PC6 (~{RESET}/PCINT14) (io), 30 PD0 (PCINT16) (io), 31 PD1 (PCINT17) (io), 32 PD2 (INT0/PCINT18) (io), 33 DAP

## ATtiny88-PU
designator U?
8-bit AVR Microcontroller, 1.8-5.5V, 8KB Flash, 64 Bytes EEPROM, 512 Bytes SRAM, 28-pin PDIP, Industrial Grade (-40°C to 85°C), Pb-Free; Published: 1-Apr-2010; DatasheetVersion: revC, Mar-2009; PackageVersion: revB, Sep-2001; PackageReference: 28P3; Publisher: Altium Limited; PackageDescription: 28-lead (0.300"/7.62mm Wide) Plastic Dual Inline Package (PDIP); Supplier 1: Digi-Key; Supplier Part Number 1: ATTINY88-PU-ND; Supplier 2: Farnell; Supplier Part Number 2: 1704569; Supplier 3: Mouser; Supplier Part Number 3: 556-ATTINY88-PU; ComponentLink1Description: Manufacturer Link; ComponentLink1URL: http://www.atmel.com/products/avr/default.asp?; ComponentLink2Description: ATtiny48/88 Datasheet; ComponentLink2URL: http://www.atmel.com/dyn/resources/prod_documents/doc8008.pdf; ComponentLink3Description: ATtiny48/88 Summary; ComponentLink3URL: http://www.atmel.com/dyn/resources/prod_documents/8008S.pdf; ComponentLink4Description: Atmel.com Home; ComponentLink4URL: http://www.atmel.com
footprint 28P3 (DIP, 28-Leads, Row Spacing 7.62mm, Pitch 2.54mm, Body 34.67x7.3mm)
pins: 1 PC6 (PCINT14/~{RESET}) (io), 2 PD0 (PCINT16) (io), 3 PD1 (PCINT17) (io), 4 PD2 (PCINT18/INT0) (io), 5 PD3 (PCINT19/INT1) (io), 6 PD4 (PCINT20/T0) (io), 7 VCC (power), 8 GND (power), 9 PB6 (PCINT6/CLKI) (io), 10 PB7 (PCINT7) (io), 11 PD5 (PCINT21/T1) (io), 12 PD6 (PCINT22/AIN0) (io), 13 PD7 (PCINT23/AIN1) (io), 14 PB0 (PCINT0/CLKO/ICP1) (io), 15 PB1 (OC1A/PCINT1) (io), 16 PB2 (~{SS}/OC1B/PCINT2) (io), 17 PB3 (MOSI/PCINT3) (io), 18 PB4 (MISO/PCINT4) (io), 19 PB5 (SCK/PCINT5) (io), 20 AVCC (power), 21 PC7 (PCINT15) (io), 22 GND (power), 23 PC0 (ADC0/PCINT8) (io), 24 PC1 (ADC1/PCINT9) (io), 25 PC2 (ADC2/PCINT10) (io), 26 PC3 (ADC3/PCINT11) (io), 27 PC4 (ADC4/SDA/PCINT12) (io), 28 PC5 (ADC5/SCL/PCINT13) (io)

## ATtiny261A-MU
designator U?
8-bit AVR Microcontroller, 1.8-5.5V, 2KB Flash, 128 Bytes EEPROM, 128 Bytes SRAM, 32-pin MLF, Industrial Grade (-40°C to 85°C), Pb-Free; Published: 1-Apr-2010; DatasheetVersion: revB, Jan-2010; PackageVersion: revE, May-2006; PackageReference: 32M1-A; Publisher: Altium Limited; PackageDescription: 32-Pin Micro Lead Frame Package (MLF),  5 x 5 x 1.0 mm Body, Pitch 0.50 mm, 3.10mm Exposed Pad; Supplier 1: Mouser; Supplier Part Number 1: 556-ATTINY261A-MU; Code_JEDEC: MO-220-VHHD-2; ComponentLink1Description: Manufacturer Link; ComponentLink1URL: http://www.atmel.com/products/avr/default.asp?; ComponentLink2Description: ATtiny261A/461A/861A Datasheet; ComponentLink2URL: http://www.atmel.com/dyn/resources/prod_documents/doc8197.pdf; ComponentLink3Description: ATtiny261A/461A/861A Summary; ComponentLink3URL: http://www.atmel.com/dyn/resources/prod_documents/8197S.pdf; ComponentLink4Description: Atmel.com Home; ComponentLink4URL: http://www.atmel.com
footprint 32M1-A_N (QFN, 32-Leads, Body 5x5mm, Pitch 0.5mm, IPC Medium Density)
footprint 32M1-A_L (QFN, 32-Leads, Body 5x5mm, Pitch 0.5mm, IPC High Density)
footprint 32M1-A_M (QFN, 32-Leads, Body 5x5mm, Pitch 0.5mm, IPC Low Density)
part A pins: 2 PB3 (OC1B/PCINT11) (io), 4 VCC (power), 5 GND (power), 7 PB4 (ADC7/~{OC1D}/CLKI/XTAL1/PCINT12) (io), 8 PB5 (ADC8/OC1D/CLKO/XTAL2/PCINT13) (io), 10 PB6 (ADC9/INT0/T0/PCINT14) (io), 11 PB7 (ADC10/~{RESET}/PCINT15) (io), 13 PA7 (ADC6/AIN1/PCINT7) (io), 14 PA6 (ADC5/AIN0/PCINT6) (io), 15 PA5 (ADC4/AIN2/PCINT5) (io), 17 PA4 (ADC3/ICP0/PCINT4) (io), 18 AVCC (power), 21 AGND (power), 22 PA3 (AREF/PCINT3) (io), 23 PA2 (ADC2/INT1/USCK/SCL/PCINT2) (io), 25 PA1 (ADC1/DO/PCINT1) (io), 26 PA0 (ADC0/DI/SDA/PCINT0) (io), 30 PB0 (MOSI/DI/SDA/~{OC1A}/PCINT8) (io), 31 PB1 (MISO/DO/OC1A/PCINT9) (io), 32 PB2 (SCK/USCK/SCL/~{OC1B}/PCINT10) (io)
part B pins: 1 NC, 3 NC, 6 NC, 9 NC, 12 NC, 16 NC, 19 NC, 20 NC, 24 NC, 27 NC, 28 NC, 29 NC, 33 DAP (power)

## ATtiny261A-PU
designator U?
8-bit AVR Microcontroller, 1.8-5.5V, 2KB Flash, 128 Bytes EEPROM, 128 Bytes SRAM, 20-pin PDIP, Industrial Grade (-40°C to 85°C), Pb-Free; Published: 1-Apr-2010; DatasheetVersion: revB, Jan-2010; PackageVersion: revC, Jan-2004; PackageReference: 20P3; Publisher: Altium Limited; PackageDescription: 20-lead (0.300"/7.62mm Wide) Plastic Dual Inline Package (PDIP); Supplier 1: Mouser; Supplier Part Number 1: 556-ATTINY261A-PU; Code_JEDEC: MS-001-AD; ComponentLink1Description: Manufacturer Link; ComponentLink1URL: http://www.atmel.com/products/avr/default.asp?; ComponentLink2Description: ATtiny261A/461A/861A Datasheet; ComponentLink2URL: http://www.atmel.com/dyn/resources/prod_documents/doc8197.pdf; ComponentLink3Description: ATtiny261A/461A/861A Summary; ComponentLink3URL: http://www.atmel.com/dyn/resources/prod_documents/8197S.pdf; ComponentLink4Description: Atmel.com Home; ComponentLink4URL: http://www.atmel.com
footprint 20P3 (DIP, 20-Leads, Row Spacing 7.62mm, Pitch 2.54mm, Body 25.9x6.61mm)
pins: 1 PB0 (MOSI/DI/SDA/~{OC1A}/PCINT8) (io), 2 PB1 (MISO/DO/OC1A/PCINT9) (io), 3 PB2 (SCK/USCK/SCL/~{OC1B}/PCINT10) (io), 4 PB3 (OC1B/PCINT11) (io), 5 VCC (power), 6 GND (power), 7 PB4 (ADC7/~{OC1D}/CLKI/XTAL1/PCINT12) (io), 8 PB5 (ADC8/OC1D/CLKO/XTAL2/PCINT13) (io), 9 PB6 (ADC9/INT0/T0/PCINT14) (io), 10 PB7 (ADC10/~{RESET}/PCINT15) (io), 11 PA7 (ADC6/AIN1/PCINT7) (io), 12 PA6 (ADC5/AIN0/PCINT6) (io), 13 PA5 (ADC4/AIN2/PCINT5) (io), 14 PA4 (ADC3/ICP0/PCINT4) (io), 15 AVCC (power), 16 AGND (power), 17 PA3 (AREF/PCINT3) (io), 18 PA2 (ADC2/INT1/USCK/SCL/PCINT2) (io), 19 PA1 (ADC1/DO/PCINT1) (io), 20 PA0 (ADC0/DI/SDA/PCINT0) (io)

## ATtiny261A-SU
designator U?
8-bit AVR Microcontroller, 1.8-5.5V, 2KB Flash, 128 Bytes EEPROM, 128 Bytes SRAM, 20-pin SOIC, Industrial Grade (-40°C to 85°C), Pb-Free; Published: 1-Apr-2010; DatasheetVersion: revB, Jan-2010; PackageVersion: revB, Nov-2006; PackageReference: 20S2; Publisher: Altium Limited; PackageDescription: 20-lead, 0.300" Wide Body, Plastic Gull Wing Small Outline Package (SOIC); Supplier 1: Mouser; Supplier Part Number 1: 556-ATTINY261A-SU; Code_JEDEC: MS-013-AC; Code_IPC: SOIC127P1030-20; ComponentLink1Description: Manufacturer Link; ComponentLink1URL: http://www.atmel.com/products/avr/default.asp?; ComponentLink2Description: ATtiny261A/461A/861A Datasheet; ComponentLink2URL: http://www.atmel.com/dyn/resources/prod_documents/doc8197.pdf; ComponentLink3Description: ATtiny261A/461A/861A Summary; ComponentLink3URL: http://www.atmel.com/dyn/resources/prod_documents/8197S.pdf; ComponentLink4Description: Atmel.com Home; ComponentLink4URL: http://www.atmel.com
footprint 20S2_N (SOIC, 20-Leads, Body 12.8x7.5mm, Pitch 1.27mm, IPC Medium Density)
footprint 20S2_L (SOIC, 20-Leads, Body 12.8x7.5mm, Pitch 1.27mm, IPC High Density)
footprint 20S2_M (SOIC, 20-Leads, Body 12.8x7.5mm, Pitch 1.27mm, IPC Low Density)
pins: 1 PB0 (MOSI/DI/SDA/~{OC1A}/PCINT8) (io), 2 PB1 (MISO/DO/OC1A/PCINT9) (io), 3 PB2 (SCK/USCK/SCL/~{OC1B}/PCINT10) (io), 4 PB3 (OC1B/PCINT11) (io), 5 VCC (power), 6 GND (power), 7 PB4 (ADC7/~{OC1D}/CLKI/XTAL1/PCINT12) (io), 8 PB5 (ADC8/OC1D/CLKO/XTAL2/PCINT13) (io), 9 PB6 (ADC9/INT0/T0/PCINT14) (io), 10 PB7 (ADC10/~{RESET}/PCINT15) (io), 11 PA7 (ADC6/AIN1/PCINT7) (io), 12 PA6 (ADC5/AIN0/PCINT6) (io), 13 PA5 (ADC4/AIN2/PCINT5) (io), 14 PA4 (ADC3/ICP0/PCINT4) (io), 15 AVCC (power), 16 AGND (power), 17 PA3 (AREF/PCINT3) (io), 18 PA2 (ADC2/INT1/USCK/SCL/PCINT2) (io), 19 PA1 (ADC1/DO/PCINT1) (io), 20 PA0 (ADC0/DI/SDA/PCINT0) (io)

## ATtiny261A-XU
designator U?
8-bit AVR Microcontroller, 1.8-5.5V, 2KB Flash, 128 Bytes EEPROM, 128 Bytes SRAM, 20-pin TSSOP, Industrial Grade (-40°C to 85°C), Pb-Free; Published: 1-Apr-2010; DatasheetVersion: revB, Jan-2010; PackageVersion: revC, Oct-2003; PackageReference: 20X; Publisher: Altium Limited; PackageDescription: 20-lead, 4.4 mm Body Width, Plastic Thin Shrink Small Outline Package (TSSOP); Supplier 1: Mouser; Supplier Part Number 1: 556-ATTINY261A-XU; ComponentLink1Description: Manufacturer Link; ComponentLink1URL: http://www.atmel.com/products/avr/default.asp?; ComponentLink2Description: ATtiny261A/461A/861A Datasheet; ComponentLink2URL: http://www.atmel.com/dyn/resources/prod_documents/doc8197.pdf; ComponentLink3Description: ATtiny261A/461A/861A Summary; ComponentLink3URL: http://www.atmel.com/dyn/resources/prod_documents/8197S.pdf; ComponentLink4Description: Atmel.com Home; ComponentLink4URL: http://www.atmel.com
footprint 20X_N (TSOP, 20-Leads, Body 6.5x4.4mm, Pitch 0.65mm, IPC Medium Density)
footprint 20X_L (TSOP, 20-Leads, Body 6.5x4.4mm, Pitch 0.65mm, IPC High Density)
footprint 20X_M (TSOP, 20-Leads, Body 6.5x4.4mm, Pitch 0.65mm, IPC Low Density)
pins: 1 PB0 (MOSI/DI/SDA/~{OC1A}/PCINT8) (io), 2 PB1 (MISO/DO/OC1A/PCINT9) (io), 3 PB2 (SCK/USCK/SCL/~{OC1B}/PCINT10) (io), 4 PB3 (OC1B/PCINT11) (io), 5 VCC (power), 6 GND (power), 7 PB4 (ADC7/~{OC1D}/CLKI/XTAL1/PCINT12) (io), 8 PB5 (ADC8/OC1D/CLKO/XTAL2/PCINT13) (io), 9 PB6 (ADC9/INT0/T0/PCINT14) (io), 10 PB7 (ADC10/~{RESET}/PCINT15) (io), 11 PA7 (ADC6/AIN1/PCINT7) (io), 12 PA6 (ADC5/AIN0/PCINT6) (io), 13 PA5 (ADC4/AIN2/PCINT5) (io), 14 PA4 (ADC3/ICP0/PCINT4) (io), 15 AVCC (power), 16 AGND (power), 17 PA3 (AREF/PCINT3) (io), 18 PA2 (ADC2/INT1/USCK/SCL/PCINT2) (io), 19 PA1 (ADC1/DO/PCINT1) (io), 20 PA0 (ADC0/DI/SDA/PCINT0) (io)

## ATtiny461A-MU
designator U?
8-bit AVR Microcontroller, 1.8-5.5V, 4KB Flash, 256 Bytes EEPROM, 256 Bytes SRAM, 32-pin MLF, Industrial Grade (-40°C to 85°C), Pb-Free; Published: 1-Apr-2010; DatasheetVersion: revB, Jan-2010; PackageVersion: revE, May-2006; PackageReference: 32M1-A; Publisher: Altium Limited; PackageDescription: 32-Pin Micro Lead Frame Package (MLF),  5 x 5 x 1.0 mm Body, Pitch 0.50 mm, 3.10mm Exposed Pad; Supplier 1: Digi-Key; Supplier Part Number 1: ATTINY461A-MU-ND; Supplier 2: Mouser; Supplier Part Number 2: 556-ATTINY461A-MU; Code_JEDEC: MO-220-VHHD-2; ComponentLink1Description: Manufacturer Link; ComponentLink1URL: http://www.atmel.com/products/avr/default.asp?; ComponentLink2Description: ATtiny261A/461A/861A Datasheet; ComponentLink2URL: http://www.atmel.com/dyn/resources/prod_documents/doc8197.pdf; ComponentLink3Description: ATtiny261A/461A/861A Summary; ComponentLink3URL: http://www.atmel.com/dyn/resources/prod_documents/8197S.pdf; ComponentLink4Description: Atmel.com Home; ComponentLink4URL: http://www.atmel.com
footprint 32M1-A_N (QFN, 32-Leads, Body 5x5mm, Pitch 0.5mm, IPC Medium Density)
footprint 32M1-A_L (QFN, 32-Leads, Body 5x5mm, Pitch 0.5mm, IPC High Density)
footprint 32M1-A_M (QFN, 32-Leads, Body 5x5mm, Pitch 0.5mm, IPC Low Density)
part A pins: 2 PB3 (OC1B/PCINT11) (io), 4 VCC (power), 5 GND (power), 7 PB4 (ADC7/~{OC1D}/CLKI/XTAL1/PCINT12) (io), 8 PB5 (ADC8/OC1D/CLKO/XTAL2/PCINT13) (io), 10 PB6 (ADC9/INT0/T0/PCINT14) (io), 11 PB7 (ADC10/~{RESET}/PCINT15) (io), 13 PA7 (ADC6/AIN1/PCINT7) (io), 14 PA6 (ADC5/AIN0/PCINT6) (io), 15 PA5 (ADC4/AIN2/PCINT5) (io), 17 PA4 (ADC3/ICP0/PCINT4) (io), 18 AVCC (power), 21 AGND (power), 22 PA3 (AREF/PCINT3) (io), 23 PA2 (ADC2/INT1/USCK/SCL/PCINT2) (io), 25 PA1 (ADC1/DO/PCINT1) (io), 26 PA0 (ADC0/DI/SDA/PCINT0) (io), 30 PB0 (MOSI/DI/SDA/~{OC1A}/PCINT8) (io), 31 PB1 (MISO/DO/OC1A/PCINT9) (io), 32 PB2 (SCK/USCK/SCL/~{OC1B}/PCINT10) (io)
part B pins: 1 NC, 3 NC, 6 NC, 9 NC, 12 NC, 16 NC, 19 NC, 20 NC, 24 NC, 27 NC, 28 NC, 29 NC, 33 DAP (power)

## ATtiny461A-PU
designator U?
8-bit AVR Microcontroller, 1.8-5.5V, 4KB Flash, 256 Bytes EEPROM, 256 Bytes SRAM, 20-pin PDIP, Industrial Grade (-40°C to 85°C), Pb-Free; Published: 1-Apr-2010; DatasheetVersion: revB, Jan-2010; PackageVersion: revC, Jan-2004; PackageReference: 20P3; Publisher: Altium Limited; PackageDescription: 20-lead (0.300"/7.62mm Wide) Plastic Dual Inline Package (PDIP); Supplier 1: Digi-Key; Supplier Part Number 1: ATTINY461A-PU-ND; Supplier 2: Mouser; Supplier Part Number 2: 556-ATTINY461A-PU; Code_JEDEC: MS-001-AD; ComponentLink1Description: Manufacturer Link; ComponentLink1URL: http://www.atmel.com/products/avr/default.asp?; ComponentLink2Description: ATtiny261A/461A/861A Datasheet; ComponentLink2URL: http://www.atmel.com/dyn/resources/prod_documents/doc8197.pdf; ComponentLink3Description: ATtiny261A/461A/861A Summary; ComponentLink3URL: http://www.atmel.com/dyn/resources/prod_documents/8197S.pdf; ComponentLink4Description: Atmel.com Home; ComponentLink4URL: http://www.atmel.com
footprint 20P3 (DIP, 20-Leads, Row Spacing 7.62mm, Pitch 2.54mm, Body 25.9x6.61mm)
pins: 1 PB0 (MOSI/DI/SDA/~{OC1A}/PCINT8) (io), 2 PB1 (MISO/DO/OC1A/PCINT9) (io), 3 PB2 (SCK/USCK/SCL/~{OC1B}/PCINT10) (io), 4 PB3 (OC1B/PCINT11) (io), 5 VCC (power), 6 GND (power), 7 PB4 (ADC7/~{OC1D}/CLKI/XTAL1/PCINT12) (io), 8 PB5 (ADC8/OC1D/CLKO/XTAL2/PCINT13) (io), 9 PB6 (ADC9/INT0/T0/PCINT14) (io), 10 PB7 (ADC10/~{RESET}/PCINT15) (io), 11 PA7 (ADC6/AIN1/PCINT7) (io), 12 PA6 (ADC5/AIN0/PCINT6) (io), 13 PA5 (ADC4/AIN2/PCINT5) (io), 14 PA4 (ADC3/ICP0/PCINT4) (io), 15 AVCC (power), 16 AGND (power), 17 PA3 (AREF/PCINT3) (io), 18 PA2 (ADC2/INT1/USCK/SCL/PCINT2) (io), 19 PA1 (ADC1/DO/PCINT1) (io), 20 PA0 (ADC0/DI/SDA/PCINT0) (io)

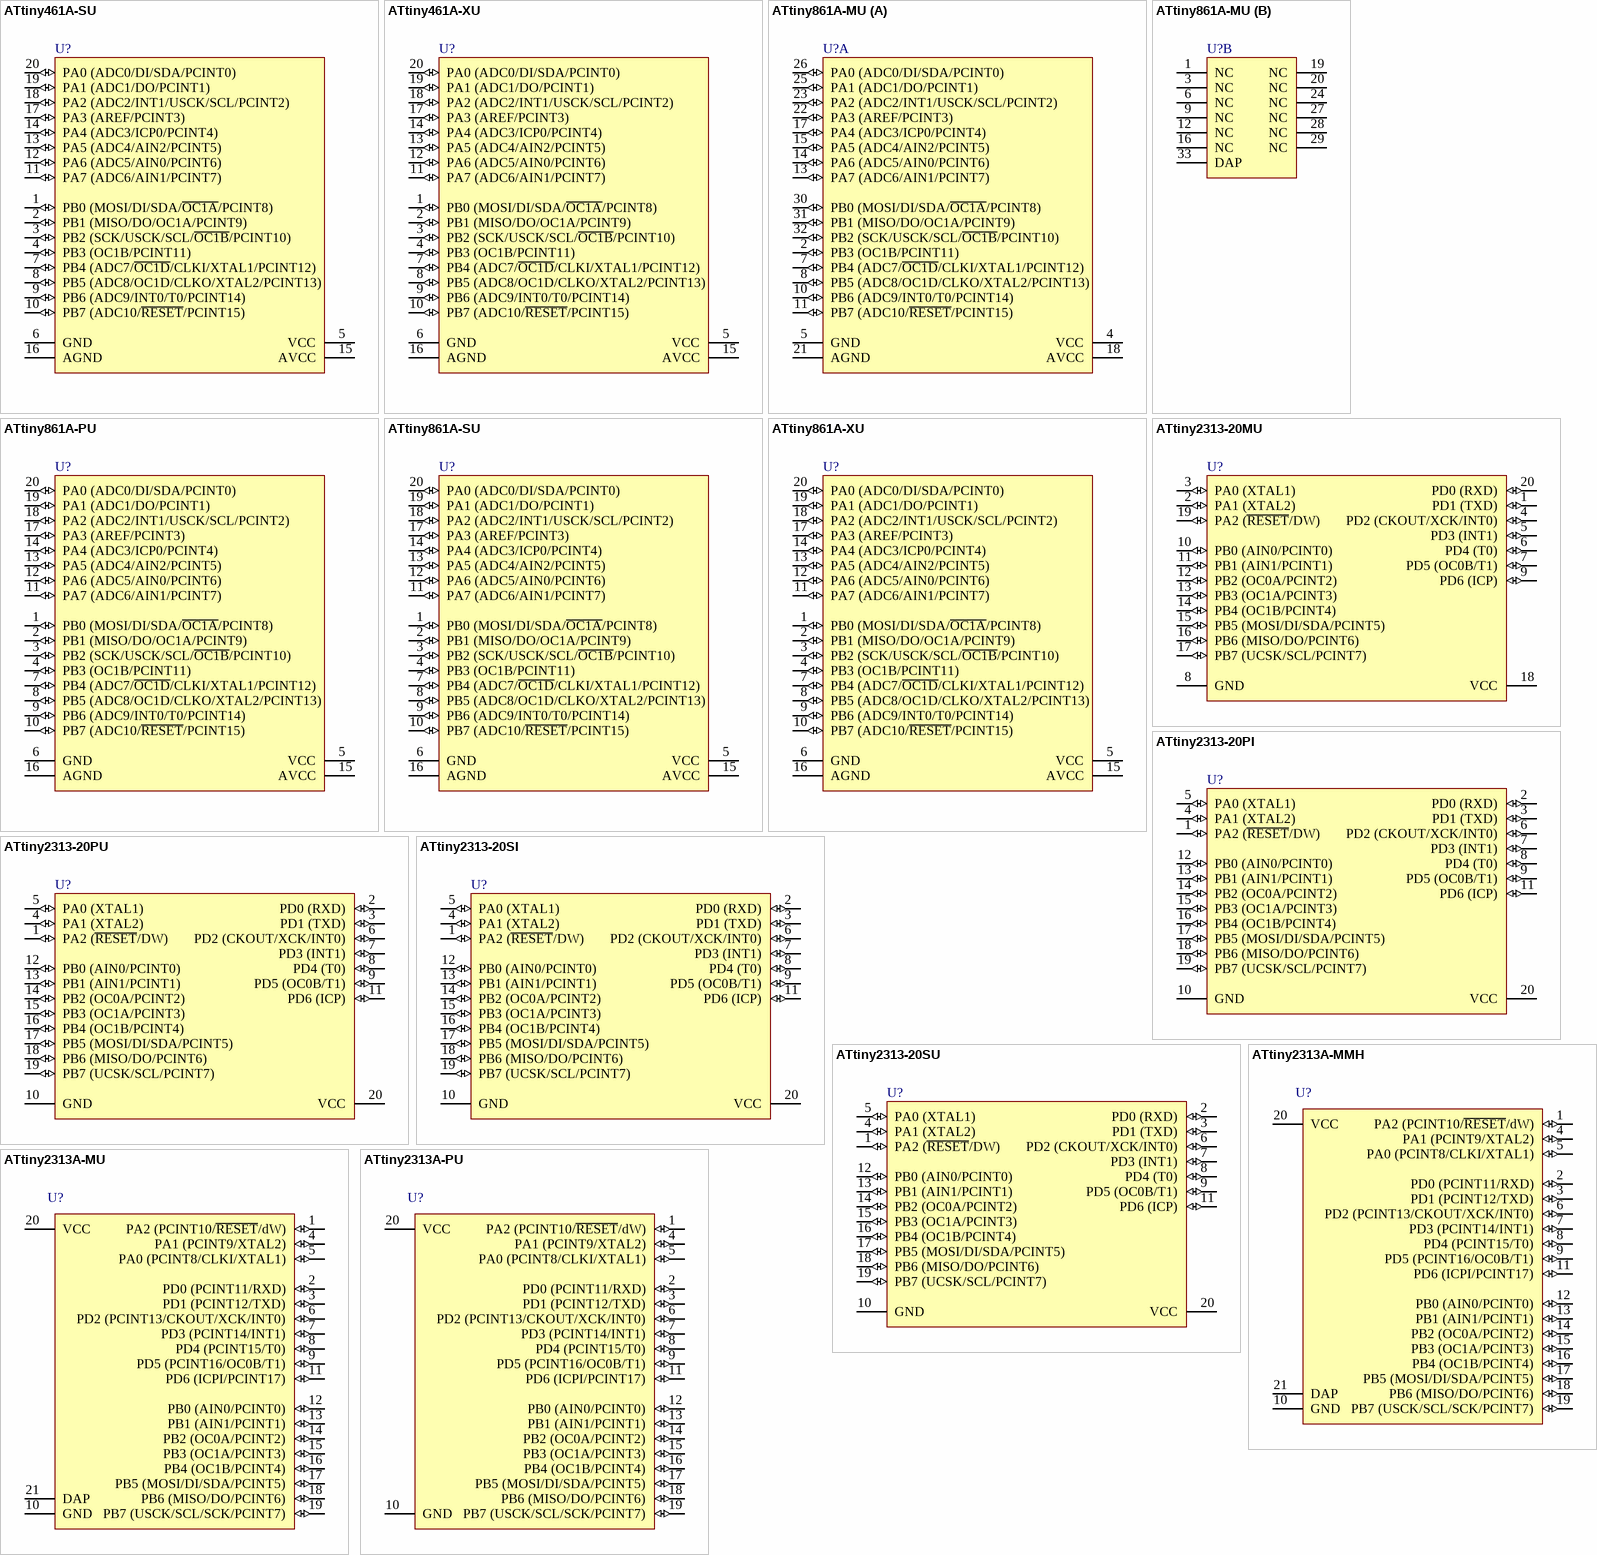
[diagram p12: symbols ATtiny461A-SU to ATtiny2313A-PU]

## ATtiny461A-SU
designator U?
8-bit AVR Microcontroller, 1.8-5.5V, 4KB Flash, 256 Bytes EEPROM, 256 Bytes SRAM, 20-pin SOIC, Industrial Grade (-40°C to 85°C), Pb-Free; Published: 1-Apr-2010; DatasheetVersion: revB, Jan-2010; PackageVersion: revB, Nov-2006; PackageReference: 20S2; Publisher: Altium Limited; PackageDescription: 20-lead, 0.300" Wide Body, Plastic Gull Wing Small Outline Package (SOIC); Supplier 1: Digi-Key; Supplier Part Number 1: ATTINY461A-SU-ND; Supplier 2: Mouser; Supplier Part Number 2: 556-ATTINY461A-SU; Code_JEDEC: MS-013-AC; Code_IPC: SOIC127P1030-20; ComponentLink1Description: Manufacturer Link; ComponentLink1URL: http://www.atmel.com/products/avr/default.asp?; ComponentLink2Description: ATtiny261A/461A/861A Datasheet; ComponentLink2URL: http://www.atmel.com/dyn/resources/prod_documents/doc8197.pdf; ComponentLink3Description: ATtiny261A/461A/861A Summary; ComponentLink3URL: http://www.atmel.com/dyn/resources/prod_documents/8197S.pdf; ComponentLink4Description: Atmel.com Home; ComponentLink4URL: http://www.atmel.com
footprint 20S2_N (SOIC, 20-Leads, Body 12.8x7.5mm, Pitch 1.27mm, IPC Medium Density)
footprint 20S2_L (SOIC, 20-Leads, Body 12.8x7.5mm, Pitch 1.27mm, IPC High Density)
footprint 20S2_M (SOIC, 20-Leads, Body 12.8x7.5mm, Pitch 1.27mm, IPC Low Density)
pins: 1 PB0 (MOSI/DI/SDA/~{OC1A}/PCINT8) (io), 2 PB1 (MISO/DO/OC1A/PCINT9) (io), 3 PB2 (SCK/USCK/SCL/~{OC1B}/PCINT10) (io), 4 PB3 (OC1B/PCINT11) (io), 5 VCC (power), 6 GND (power), 7 PB4 (ADC7/~{OC1D}/CLKI/XTAL1/PCINT12) (io), 8 PB5 (ADC8/OC1D/CLKO/XTAL2/PCINT13) (io), 9 PB6 (ADC9/INT0/T0/PCINT14) (io), 10 PB7 (ADC10/~{RESET}/PCINT15) (io), 11 PA7 (ADC6/AIN1/PCINT7) (io), 12 PA6 (ADC5/AIN0/PCINT6) (io), 13 PA5 (ADC4/AIN2/PCINT5) (io), 14 PA4 (ADC3/ICP0/PCINT4) (io), 15 AVCC (power), 16 AGND (power), 17 PA3 (AREF/PCINT3) (io), 18 PA2 (ADC2/INT1/USCK/SCL/PCINT2) (io), 19 PA1 (ADC1/DO/PCINT1) (io), 20 PA0 (ADC0/DI/SDA/PCINT0) (io)

## ATtiny461A-XU
designator U?
8-bit AVR Microcontroller, 1.8-5.5V, 4KB Flash, 256 Bytes EEPROM, 256 Bytes SRAM, 20-pin TSSOP, Industrial Grade (-40°C to 85°C), Pb-Free; Published: 1-Apr-2010; DatasheetVersion: revB, Jan-2010; PackageVersion: revC, Oct-2003; PackageReference: 20X; Publisher: Altium Limited; PackageDescription: 20-lead, 4.4 mm Body Width, Plastic Thin Shrink Small Outline Package (TSSOP); Supplier 1: Digi-Key; Supplier Part Number 1: ATTINY461A-XU-ND; Supplier 2: Mouser; Supplier Part Number 2: 556-ATTINY461A-XU; ComponentLink1Description: Manufacturer Link; ComponentLink1URL: http://www.atmel.com/products/avr/default.asp?; ComponentLink2Description: ATtiny261A/461A/861A Datasheet; ComponentLink2URL: http://www.atmel.com/dyn/resources/prod_documents/doc8197.pdf; ComponentLink3Description: ATtiny261A/461A/861A Summary; ComponentLink3URL: http://www.atmel.com/dyn/resources/prod_documents/8197S.pdf; ComponentLink4Description: Atmel.com Home; ComponentLink4URL: http://www.atmel.com
footprint 20X_N (TSOP, 20-Leads, Body 6.5x4.4mm, Pitch 0.65mm, IPC Medium Density)
footprint 20X_L (TSOP, 20-Leads, Body 6.5x4.4mm, Pitch 0.65mm, IPC High Density)
footprint 20X_M (TSOP, 20-Leads, Body 6.5x4.4mm, Pitch 0.65mm, IPC Low Density)
pins: 1 PB0 (MOSI/DI/SDA/~{OC1A}/PCINT8) (io), 2 PB1 (MISO/DO/OC1A/PCINT9) (io), 3 PB2 (SCK/USCK/SCL/~{OC1B}/PCINT10) (io), 4 PB3 (OC1B/PCINT11) (io), 5 VCC (power), 6 GND (power), 7 PB4 (ADC7/~{OC1D}/CLKI/XTAL1/PCINT12) (io), 8 PB5 (ADC8/OC1D/CLKO/XTAL2/PCINT13) (io), 9 PB6 (ADC9/INT0/T0/PCINT14) (io), 10 PB7 (ADC10/~{RESET}/PCINT15) (io), 11 PA7 (ADC6/AIN1/PCINT7) (io), 12 PA6 (ADC5/AIN0/PCINT6) (io), 13 PA5 (ADC4/AIN2/PCINT5) (io), 14 PA4 (ADC3/ICP0/PCINT4) (io), 15 AVCC (power), 16 AGND (power), 17 PA3 (AREF/PCINT3) (io), 18 PA2 (ADC2/INT1/USCK/SCL/PCINT2) (io), 19 PA1 (ADC1/DO/PCINT1) (io), 20 PA0 (ADC0/DI/SDA/PCINT0) (io)

## ATtiny861A-MU
designator U?
8-bit AVR Microcontroller, 1.8-5.5V, 8KB Flash, 512 Bytes EEPROM, 512 Bytes SRAM, 32-pin MLF, Industrial Grade (-40°C to 85°C), Pb-Free; Published: 1-Apr-2010; DatasheetVersion: revB, Jan-2010; PackageVersion: revE, May-2006; PackageReference: 32M1-A; Publisher: Altium Limited; PackageDescription: 32-Pin Micro Lead Frame Package (MLF),  5 x 5 x 1.0 mm Body, Pitch 0.50 mm, 3.10mm Exposed Pad; Supplier 1: Mouser; Supplier Part Number 1: 556-ATTINY861A-MU; Code_JEDEC: MO-220-VHHD-2; ComponentLink1Description: Manufacturer Link; ComponentLink1URL: http://www.atmel.com/products/avr/default.asp?; ComponentLink2Description: ATtiny261A/461A/861A Datasheet; ComponentLink2URL: http://www.atmel.com/dyn/resources/prod_documents/doc8197.pdf; ComponentLink3Description: ATtiny261A/461A/861A Summary; ComponentLink3URL: http://www.atmel.com/dyn/resources/prod_documents/8197S.pdf; ComponentLink4Description: Atmel.com Home; ComponentLink4URL: http://www.atmel.com
footprint 32M1-A_N (QFN, 32-Leads, Body 5x5mm, Pitch 0.5mm, IPC Medium Density)
footprint 32M1-A_L (QFN, 32-Leads, Body 5x5mm, Pitch 0.5mm, IPC High Density)
footprint 32M1-A_M (QFN, 32-Leads, Body 5x5mm, Pitch 0.5mm, IPC Low Density)
part A pins: 2 PB3 (OC1B/PCINT11) (io), 4 VCC (power), 5 GND (power), 7 PB4 (ADC7/~{OC1D}/CLKI/XTAL1/PCINT12) (io), 8 PB5 (ADC8/OC1D/CLKO/XTAL2/PCINT13) (io), 10 PB6 (ADC9/INT0/T0/PCINT14) (io), 11 PB7 (ADC10/~{RESET}/PCINT15) (io), 13 PA7 (ADC6/AIN1/PCINT7) (io), 14 PA6 (ADC5/AIN0/PCINT6) (io), 15 PA5 (ADC4/AIN2/PCINT5) (io), 17 PA4 (ADC3/ICP0/PCINT4) (io), 18 AVCC (power), 21 AGND (power), 22 PA3 (AREF/PCINT3) (io), 23 PA2 (ADC2/INT1/USCK/SCL/PCINT2) (io), 25 PA1 (ADC1/DO/PCINT1) (io), 26 PA0 (ADC0/DI/SDA/PCINT0) (io), 30 PB0 (MOSI/DI/SDA/~{OC1A}/PCINT8) (io), 31 PB1 (MISO/DO/OC1A/PCINT9) (io), 32 PB2 (SCK/USCK/SCL/~{OC1B}/PCINT10) (io)
part B pins: 1 NC, 3 NC, 6 NC, 9 NC, 12 NC, 16 NC, 19 NC, 20 NC, 24 NC, 27 NC, 28 NC, 29 NC, 33 DAP (power)

## ATtiny861A-PU
designator U?
8-bit AVR Microcontroller, 1.8-5.5V, 8KB Flash, 512 Bytes EEPROM, 512 Bytes SRAM, 20-pin PDIP, Industrial Grade (-40°C to 85°C), Pb-Free; Published: 1-Apr-2010; DatasheetVersion: revB, Jan-2010; PackageVersion: revC, Jan-2004; PackageReference: 20P3; Publisher: Altium Limited; PackageDescription: 20-lead (0.300"/7.62mm Wide) Plastic Dual Inline Package (PDIP); Supplier 1: Mouser; Supplier Part Number 1: 556-ATTINY861A-PU; Code_JEDEC: MS-001-AD; ComponentLink1Description: Manufacturer Link; ComponentLink1URL: http://www.atmel.com/products/avr/default.asp?; ComponentLink2Description: ATtiny261A/461A/861A Datasheet; ComponentLink2URL: http://www.atmel.com/dyn/resources/prod_documents/doc8197.pdf; ComponentLink3Description: ATtiny261A/461A/861A Summary; ComponentLink3URL: http://www.atmel.com/dyn/resources/prod_documents/8197S.pdf; ComponentLink4Description: Atmel.com Home; ComponentLink4URL: http://www.atmel.com
footprint 20P3 (DIP, 20-Leads, Row Spacing 7.62mm, Pitch 2.54mm, Body 25.9x6.61mm)
pins: 1 PB0 (MOSI/DI/SDA/~{OC1A}/PCINT8) (io), 2 PB1 (MISO/DO/OC1A/PCINT9) (io), 3 PB2 (SCK/USCK/SCL/~{OC1B}/PCINT10) (io), 4 PB3 (OC1B/PCINT11) (io), 5 VCC (power), 6 GND (power), 7 PB4 (ADC7/~{OC1D}/CLKI/XTAL1/PCINT12) (io), 8 PB5 (ADC8/OC1D/CLKO/XTAL2/PCINT13) (io), 9 PB6 (ADC9/INT0/T0/PCINT14) (io), 10 PB7 (ADC10/~{RESET}/PCINT15) (io), 11 PA7 (ADC6/AIN1/PCINT7) (io), 12 PA6 (ADC5/AIN0/PCINT6) (io), 13 PA5 (ADC4/AIN2/PCINT5) (io), 14 PA4 (ADC3/ICP0/PCINT4) (io), 15 AVCC (power), 16 AGND (power), 17 PA3 (AREF/PCINT3) (io), 18 PA2 (ADC2/INT1/USCK/SCL/PCINT2) (io), 19 PA1 (ADC1/DO/PCINT1) (io), 20 PA0 (ADC0/DI/SDA/PCINT0) (io)

## ATtiny861A-SU
designator U?
8-bit AVR Microcontroller, 1.8-5.5V, 8KB Flash, 512 Bytes EEPROM, 512 Bytes SRAM, 20-pin SOIC, Industrial Grade (-40°C to 85°C), Pb-Free; Published: 1-Apr-2010; DatasheetVersion: revB, Jan-2010; PackageVersion: revB, Nov-2006; PackageReference: 20S2; Publisher: Altium Limited; PackageDescription: 20-lead, 0.300" Wide Body, Plastic Gull Wing Small Outline Package (SOIC); Supplier 1: Mouser; Supplier Part Number 1: 556-ATTINY861A-SU; Code_JEDEC: MS-013-AC; Code_IPC: SOIC127P1030-20; ComponentLink1Description: Manufacturer Link; ComponentLink1URL: http://www.atmel.com/products/avr/default.asp?; ComponentLink2Description: ATtiny261A/461A/861A Datasheet; ComponentLink2URL: http://www.atmel.com/dyn/resources/prod_documents/doc8197.pdf; ComponentLink3Description: ATtiny261A/461A/861A Summary; ComponentLink3URL: http://www.atmel.com/dyn/resources/prod_documents/8197S.pdf; ComponentLink4Description: Atmel.com Home; ComponentLink4URL: http://www.atmel.com
footprint 20S2_N (SOIC, 20-Leads, Body 12.8x7.5mm, Pitch 1.27mm, IPC Medium Density)
footprint 20S2_L (SOIC, 20-Leads, Body 12.8x7.5mm, Pitch 1.27mm, IPC High Density)
footprint 20S2_M (SOIC, 20-Leads, Body 12.8x7.5mm, Pitch 1.27mm, IPC Low Density)
pins: 1 PB0 (MOSI/DI/SDA/~{OC1A}/PCINT8) (io), 2 PB1 (MISO/DO/OC1A/PCINT9) (io), 3 PB2 (SCK/USCK/SCL/~{OC1B}/PCINT10) (io), 4 PB3 (OC1B/PCINT11) (io), 5 VCC (power), 6 GND (power), 7 PB4 (ADC7/~{OC1D}/CLKI/XTAL1/PCINT12) (io), 8 PB5 (ADC8/OC1D/CLKO/XTAL2/PCINT13) (io), 9 PB6 (ADC9/INT0/T0/PCINT14) (io), 10 PB7 (ADC10/~{RESET}/PCINT15) (io), 11 PA7 (ADC6/AIN1/PCINT7) (io), 12 PA6 (ADC5/AIN0/PCINT6) (io), 13 PA5 (ADC4/AIN2/PCINT5) (io), 14 PA4 (ADC3/ICP0/PCINT4) (io), 15 AVCC (power), 16 AGND (power), 17 PA3 (AREF/PCINT3) (io), 18 PA2 (ADC2/INT1/USCK/SCL/PCINT2) (io), 19 PA1 (ADC1/DO/PCINT1) (io), 20 PA0 (ADC0/DI/SDA/PCINT0) (io)